# Altium schematic symbol library SparkFun-Capacitors.SCHLIB: 79 symbols
Pins are listed as number, name and electrical type; pins without a type are passive.

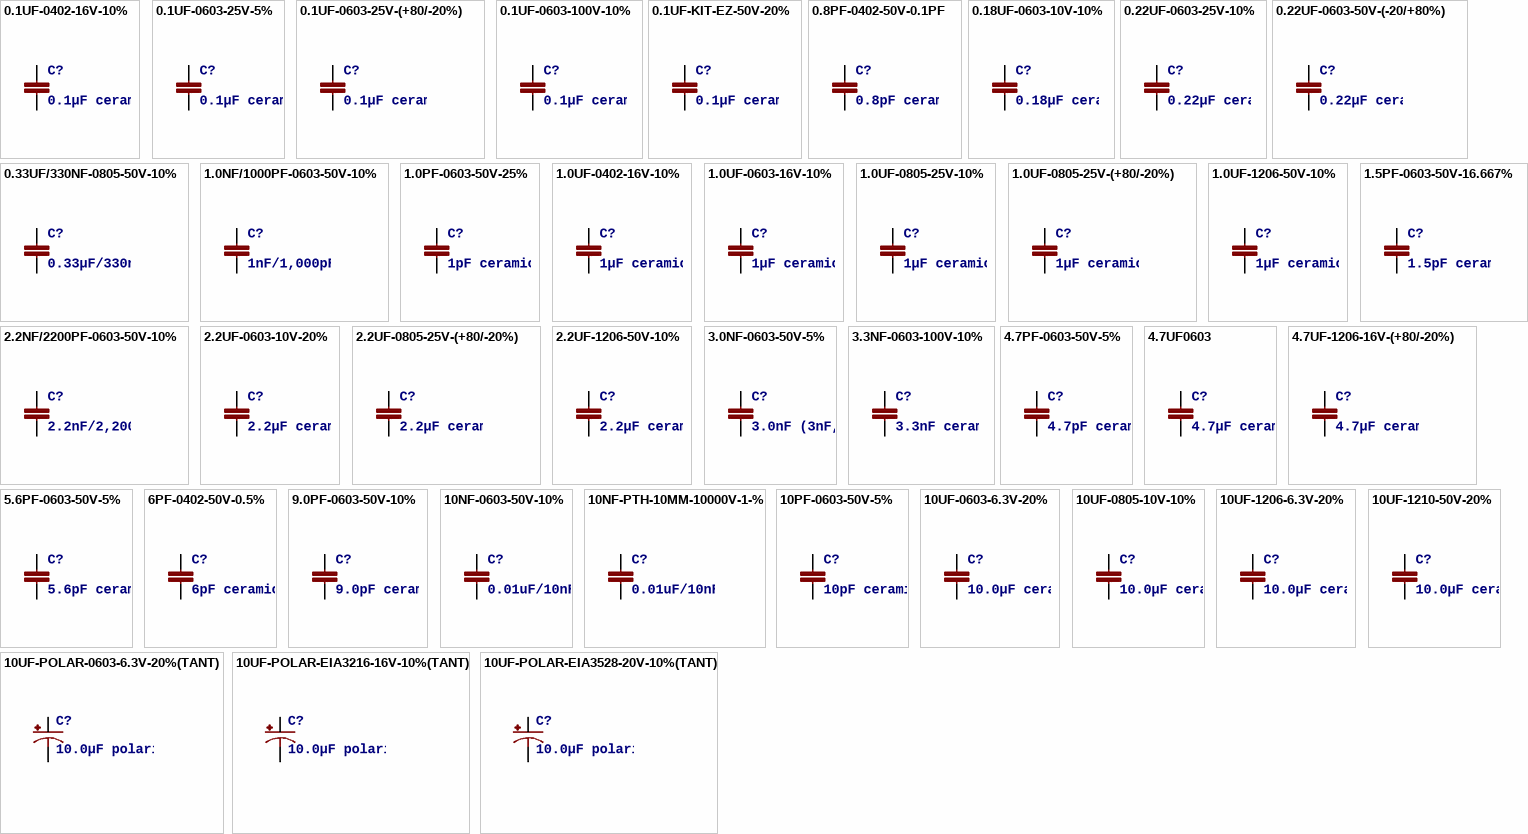
[diagram p0: symbols 0.1UF-0402-16V-10% to 10UF-POLAR-EIA3528-20V-10%(TANT)]

## 0.1UF-0402-16V-10%
designator C?, comment 0.1µF ceramic capacitors    A capacitor is a passive two-terminal electrical component used to store electrical energy temporarily in an electric field.
PROD_ID: CAP-12416
footprint 0402
pins: 1, 2

## 0.1UF-0603-25V-5%
designator C?, comment 0.1µF ceramic capacitors    A capacitor is a passive two-terminal electrical component used to store electrical energy temporarily in an electric field.
PROD_ID: CAP-08604
footprint 0603
pins: 1, 2

## 0.1UF-0603-25V-(+80/-20%)
designator C?, comment 0.1µF ceramic capacitors    A capacitor is a passive two-terminal electrical component used to store electrical energy temporarily in an electric field.
PROD_ID: CAP-00810
footprint 0603
pins: 1, 2

## 0.1UF-0603-100V-10%
designator C?, comment 0.1µF ceramic capacitors    A capacitor is a passive two-terminal electrical component used to store electrical energy temporarily in an electric field.
PROD_ID: CAP-08390
footprint 0603
pins: 1, 2

## 0.1UF-KIT-EZ-50V-20%
designator C?, comment 0.1µF ceramic capacitors    A capacitor is a passive two-terminal electrical component used to store electrical energy temporarily in an electric field.
PROD_ID: CAP-08370
footprint CAP-PTH-SMALL-KIT
pins: 1, 2

## 0.8PF-0402-50V-0.1PF
designator C?, comment 0.8pF ceramic capacitors    A capacitor is a passive two-terminal electrical component used to store electrical energy temporarily in an electric field.
PROD_ID: CAP-13456
footprint 0402
pins: 1, 2

## 0.18UF-0603-10V-10%
designator C?, comment 0.18µF ceramic capacitor    A capacitor is a passive two-terminal electrical component used to store electrical energy temporarily in an electric field.
PROD_ID: CAP-12380
footprint 0603
pins: 1, 2

## 0.22UF-0603-25V-10%
designator C?, comment 0.22µF ceramic capacitors    A capacitor is a passive two-terminal electrical component used to store electrical energy temporarily in an electric field.
PROD_ID: CAP-07822
footprint 0603
pins: 1, 2

## 0.22UF-0603-50V-(-20/+80%)
designator C?, comment 0.22µF ceramic capacitors    A capacitor is a passive two-terminal electrical component used to store electrical energy temporarily in an electric field.
PROD_ID: CAP-09885
footprint 0603
pins: 1, 2

## 0.33UF/330NF-0805-50V-10%
designator C?, comment 0.33µF/330nF ceramic capacitors    A capacitor is a passive two-terminal electrical component used to store electrical energy temporarily in an electric field.
PROD_ID: CAP-08469
footprint 0805
pins: 1, 2

## 1.0NF/1000PF-0603-50V-10%
designator C?, comment 1nF/1,000pF ceramic capacitors    A capacitor is a passive two-terminal electrical component used to store electrical energy temporarily in an electric field.
PROD_ID: CAP-07886
footprint 0603
pins: 1, 2

## 1.0PF-0603-50V-25%
designator C?, comment 1pF ceramic capacitors    A capacitor is a passive two-terminal electrical component used to store electrical energy temporarily in an electric field.
PROD_ID: CAP-07879
footprint 0603
pins: 1, 2

## 1.0UF-0402-16V-10%
designator C?, comment 1µF ceramic capacitors    A capacitor is a passive two-terminal electrical component used to store electrical energy temporarily in an electric field.
PROD_ID: CAP-12417
footprint 0402
pins: 1, 2

## 1.0UF-0603-16V-10%
designator C?, comment 1µF ceramic capacitors    A capacitor is a passive two-terminal electrical component used to store electrical energy temporarily in an electric field.
PROD_ID: CAP-00868
footprint 0603
pins: 1, 2

## 1.0UF-0805-25V-10%
designator C?, comment 1µF ceramic capacitors    A capacitor is a passive two-terminal electrical component used to store electrical energy temporarily in an electric field.
PROD_ID: CAP-08064
footprint 0805
pins: 1, 2

## 1.0UF-0805-25V-(+80/-20%)
designator C?, comment 1µF ceramic capacitors    A capacitor is a passive two-terminal electrical component used to store electrical energy temporarily in an electric field.
PROD_ID: CAP-11625
footprint 0805
pins: 1, 2

## 1.0UF-1206-50V-10%
designator C?, comment 1µF ceramic capacitors    A capacitor is a passive two-terminal electrical component used to store electrical energy temporarily in an electric field.
PROD_ID: CAP-09822
footprint 1206
pins: 1, 2

## 1.5PF-0603-50V-16.667%
designator C?, comment 1.5pF ceramic capacitors    A capacitor is a passive two-terminal electrical component used to store electrical energy temporarily in an electric field.
PROD_ID: CAP-08763
footprint 0603
pins: 1, 2

## 2.2NF/2200PF-0603-50V-10%
designator C?, comment 2.2nF/2,200pF ceramic capacitors    A capacitor is a passive two-terminal electrical component used to store electrical energy temporarily in an electric field.
PROD_ID: CAP-07877
footprint 0603
pins: 1, 2

## 2.2UF-0603-10V-20%
designator C?, comment 2.2µF ceramic capacitors    A capacitor is a passive two-terminal electrical component used to store electrical energy temporarily in an electric field.
PROD_ID: CAP-07888
footprint 0603
pins: 1, 2

## 2.2UF-0805-25V-(+80/-20%)
designator C?, comment 2.2µF ceramic capacitors    A capacitor is a passive two-terminal electrical component used to store electrical energy temporarily in an electric field.
PROD_ID: CAP-11624
footprint 0805
pins: 1, 2

## 2.2UF-1206-50V-10%
designator C?, comment 2.2µF ceramic capacitors    A capacitor is a passive two-terminal electrical component used to store electrical energy temporarily in an electric field.
PROD_ID: CAP-10009
footprint 1206
pins: 1, 2

## 3.0NF-0603-50V-5%
designator C?, comment 3.0nF (3nF, 3000pF) ceramic capacitors    A capacitor is a passive two-terminal electrical component used to store electrical energy temporarily in an electric field.
PROD_ID: CAP-13515
footprint 0603
pins: 1, 2

## 3.3NF-0603-100V-10%
designator C?, comment 3.3nF ceramic capacitors    A capacitor is a passive two-terminal electrical component used to store electrical energy temporarily in an electric field.
PROD_ID: CAP-09633
footprint 0603
pins: 1, 2

## 4.7PF-0603-50V-5%
designator C?, comment 4.7pF ceramic capacitors    A capacitor is a passive two-terminal electrical component used to store electrical energy temporarily in an electric field.
PROD_ID: CAP-07880
footprint 0603
pins: 1, 2

## 4.7UF0603
designator C?, comment 4.7µF ceramic capacitors    A capacitor is a passive two-terminal electrical component used to store electrical energy temporarily in an electric field.
PROD_ID: CAP-08280
footprint 0603
pins: 1, 2

## 4.7UF-1206-16V-(+80/-20%)
designator C?, comment 4.7µF ceramic capacitors    A capacitor is a passive two-terminal electrical component used to store electrical energy temporarily in an electric field.
PROD_ID: CAP-10300
footprint 1206
pins: 1, 2

## 5.6PF-0603-50V-5%
designator C?, comment 5.6pF ceramic capacitors    A capacitor is a passive two-terminal electrical component used to store electrical energy temporarily in an electric field.
PROD_ID: CAP-12456
footprint 0603
pins: 1, 2

## 6PF-0402-50V-0.5%
designator C?, comment 6pF ceramic capacitors    A capacitor is a passive two-terminal electrical component used to store electrical energy temporarily in an electric field.
PROD_ID: CAP-13455
footprint 0402
pins: 1, 2

## 9.0PF-0603-50V-10%
designator C?, comment 9.0pF ceramic capacitors    A capacitor is a passive two-terminal electrical component used to store electrical energy temporarily in an electric field.
PROD_ID: CAP-09341
footprint 0603
pins: 1, 2

## 10NF-0603-50V-10%
designator C?, comment 0.01uF/10nF/10,000pF ceramic capacitors    A capacitor is a passive two-terminal electrical component used to store electrical energy temporarily in an electric field.CAP-09321
PROD_ID: CAP-00867
footprint 0603
pins: 1, 2

## 10NF-PTH-10MM-10000V-1-%
designator C?, comment 0.01uF/10nF/10,000pF ceramic capacitors    A capacitor is a passive two-terminal electrical component used to store electrical energy temporarily in an electric field.CAP-09321
PROD_ID: CAP-09321
footprint CAP-PTH-10MM
pins: 1, 2

## 10PF-0603-50V-5%
designator C?, comment 10pF ceramic capacitors    A capacitor is a passive two-terminal electrical component used to store electrical energy temporarily in an electric field.
PROD_ID: CAP-11812
footprint 0603
pins: 1, 2

## 10UF-0603-6.3V-20%
designator C?, comment 10.0µF ceramic capacitors    A capacitor is a passive two-terminal electrical component used to store electrical energy temporarily in an electric field.
PROD_ID: CAP-11015
footprint 0603
pins: 1, 2

## 10UF-0805-10V-10%
designator C?, comment 10.0µF ceramic capacitors    A capacitor is a passive two-terminal electrical component used to store electrical energy temporarily in an electric field.
PROD_ID: CAP-11330
footprint 0805
pins: 1, 2

## 10UF-1206-6.3V-20%
designator C?, comment 10.0µF ceramic capacitors    A capacitor is a passive two-terminal electrical component used to store electrical energy temporarily in an electric field.
PROD_ID: CAP-10057
footprint 1206
pins: 1, 2

## 10UF-1210-50V-20%
designator C?, comment 10.0µF ceramic capacitors    A capacitor is a passive two-terminal electrical component used to store electrical energy temporarily in an electric field.
PROD_ID: CAP-09824
footprint 1210
pins: 1, 2

## 10UF-POLAR-0603-6.3V-20%(TANT)
designator C?, comment 10.0µF polarized capacitors    A capacitor is a passive two-terminal electrical component used to store electrical energy temporarily in an electric field.
PROD_ID: CAP-13210
footprint 0603-POLAR
pins: +, -

## 10UF-POLAR-EIA3216-16V-10%(TANT)
designator C?, comment 10.0µF polarized capacitors    A capacitor is a passive two-terminal electrical component used to store electrical energy temporarily in an electric field.
PROD_ID: CAP-00811
footprint EIA3216
pins: +, -

## 10UF-POLAR-EIA3528-20V-10%(TANT)
designator C?, comment 10.0µF polarized capacitors    A capacitor is a passive two-terminal electrical component used to store electrical energy temporarily in an electric field.
PROD_ID: CAP-08063
footprint EIA3528
pins: A +, C -

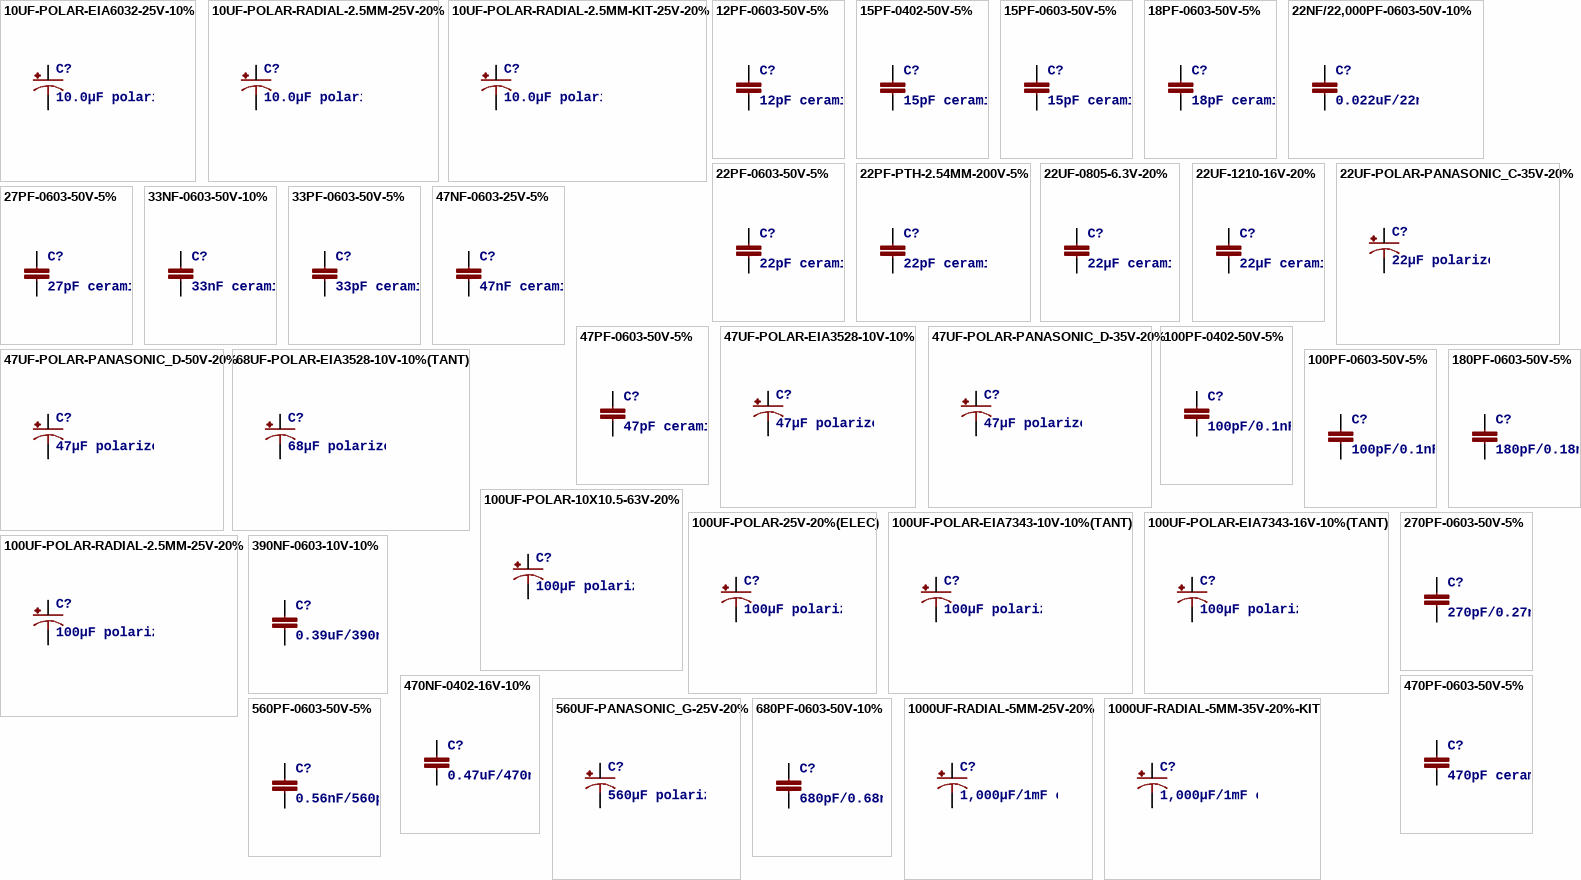
[diagram p1: symbols 10UF-POLAR-EIA6032-25V-10% to 1000UF-RADIAL-5MM-35V-20%-KIT]

## 10UF-POLAR-EIA6032-25V-10%
designator C?, comment 10.0µF polarized capacitors    A capacitor is a passive two-terminal electrical component used to store electrical energy temporarily in an electric field.
PROD_ID: CAP-12984
footprint EIA6032-NOM
pins: A +, C -

## 10UF-POLAR-RADIAL-2.5MM-25V-20%
designator C?, comment 10.0µF polarized capacitors    A capacitor is a passive two-terminal electrical component used to store electrical energy temporarily in an electric field.
PROD_ID: CAP-08440
footprint CPOL-RADIAL-2.5MM-5MM
pins: 1 +, 2 -

## 10UF-POLAR-RADIAL-2.5MM-KIT-25V-20%
designator C?, comment 10.0µF polarized capacitors    A capacitor is a passive two-terminal electrical component used to store electrical energy temporarily in an electric field.
PROD_ID: CAP-08440
footprint CPOL-RADIAL-2.5MM-5MM-KIT
pins: 1 +, 2 -

## 12PF-0603-50V-5%
designator C?, comment 12pF ceramic capacitors    A capacitor is a passive two-terminal electrical component used to store electrical energy temporarily in an electric field.
PROD_ID: CAP-09137
footprint 0603
pins: 1, 2

## 15PF-0402-50V-5%
designator C?, comment 15pF ceramic capacitors    A capacitor is a passive two-terminal electrical component used to store electrical energy temporarily in an electric field.
PROD_ID: CAP-13063
footprint 0402
pins: 1, 2

## 15PF-0603-50V-5%
designator C?, comment 15pF ceramic capacitors    A capacitor is a passive two-terminal electrical component used to store electrical energy temporarily in an electric field.
PROD_ID: CAP-07881
footprint 0603
pins: 1, 2

## 18PF-0603-50V-5%
designator C?, comment 18pF ceramic capacitors    A capacitor is a passive two-terminal electrical component used to store electrical energy temporarily in an electric field.
PROD_ID: CAP-08267
footprint 0603
pins: 1, 2

## 22NF/22,000PF-0603-50V-10%
designator C?, comment 0.022uF/22nF/22,000pF ceramic capacitors    A capacitor is a passive two-terminal electrical component used to store electrical energy temporarily in an electric field.
PROD_ID: CAP-07885
footprint 0603
pins: 1, 2

## 22PF-0603-50V-5%
designator C?, comment 22pF ceramic capacitors    A capacitor is a passive two-terminal electrical component used to store electrical energy temporarily in an electric field.
PROD_ID: CAP-07876
footprint 0603
pins: 1, 2

## 22PF-PTH-2.54MM-200V-5%
designator C?, comment 22pF ceramic capacitors    A capacitor is a passive two-terminal electrical component used to store electrical energy temporarily in an electric field.
PROD_ID: CAP-09128
footprint CAP-PTH-2.54
pins: 1, 2

## 22UF-0805-6.3V-20%
designator C?, comment 22µF ceramic capacitors    A capacitor is a passive two-terminal electrical component used to store electrical energy temporarily in an electric field.
PROD_ID: CAP-08402
footprint 0805
pins: 1, 2

## 22UF-1210-16V-20%
designator C?, comment 22µF ceramic capacitors    A capacitor is a passive two-terminal electrical component used to store electrical energy temporarily in an electric field.
footprint 1210
pins: 1, 2

## 22UF-POLAR-PANASONIC_C-35V-20%
designator C?, comment 22µF polarized capacitors    A capacitor is a passive two-terminal electrical component used to store electrical energy temporarily in an electric field.
PROD_ID: CAP-08618
footprint PANASONIC_C
pins: +, -

## 27PF-0603-50V-5%
designator C?, comment 27pF ceramic capacitors    A capacitor is a passive two-terminal electrical component used to store electrical energy temporarily in an electric field.
PROD_ID: CAP-09989
footprint 0603
pins: 1, 2

## 33NF-0603-50V-10%
designator C?, comment 33nF ceramic capacitors    A capacitor is a passive two-terminal electrical component used to store electrical energy temporarily in an electric field.
PROD_ID: CAP-07887
footprint 0603
pins: 1, 2

## 33PF-0603-50V-5%
designator C?, comment 33pF ceramic capacitors    A capacitor is a passive two-terminal electrical component used to store electrical energy temporarily in an electric field.
PROD_ID: CAP-10142
footprint 0603
pins: 1, 2

## 47NF-0603-25V-5%
designator C?, comment 47nF ceramic capacitors    A capacitor is a passive two-terminal electrical component used to store electrical energy temporarily in an electric field.
PROD_ID: CAP-08605
footprint 0603
pins: 1, 2

## 47PF-0603-50V-5%
designator C?, comment 47pF ceramic capacitors    A capacitor is a passive two-terminal electrical component used to store electrical energy temporarily in an electric field.
PROD_ID: CAP-08913
footprint 0603
pins: 1, 2

## 47UF-POLAR-EIA3528-10V-10%
designator C?, comment 47µF polarized capacitors    A capacitor is a passive two-terminal electrical component used to store electrical energy temporarily in an electric field.
PROD_ID: CAP-08310
footprint EIA3528
pins: A +, C -

## 47UF-POLAR-PANASONIC_D-35V-20%
designator C?, comment 47µF polarized capacitors    A capacitor is a passive two-terminal electrical component used to store electrical energy temporarily in an electric field.
PROD_ID: CAP-08478
footprint PANASONIC_D
pins: +, -

## 47UF-POLAR-PANASONIC_D-50V-20%
designator C?, comment 47µF polarized capacitors    A capacitor is a passive two-terminal electrical component used to store electrical energy temporarily in an electric field.
footprint PANASONIC_D
pins: +, -

## 68UF-POLAR-EIA3528-10V-10%(TANT)
designator C?, comment 68µF polarized capacitors    A capacitor is a passive two-terminal electrical component used to store electrical energy temporarily in an electric field.
PROD_ID: CAP-10790
footprint EIA3528
pins: A +, C -

## 100PF-0402-50V-5%
designator C?, comment 100pF/0.1nF ceramic capacitors    A capacitor is a passive two-terminal electrical component used to store electrical energy temporarily in an electric field.
PROD_ID: CAP-13458
footprint 0402
pins: 1, 2

## 100PF-0603-50V-5%
designator C?, comment 100pF/0.1nF ceramic capacitors    A capacitor is a passive two-terminal electrical component used to store electrical energy temporarily in an electric field.
PROD_ID: CAP-07883
footprint 0603
pins: 1, 2

## 100UF-POLAR-10X10.5-63V-20%
designator C?, comment 100µF polarized capacitors    A capacitor is a passive two-terminal electrical component used to store electrical energy temporarily in an electric field.
PROD_ID: CAP-08362
footprint NIC_10X10.5_CAP
pins: +, -

## 100UF-POLAR-25V-20%(ELEC)
designator C?, comment 100µF polarized capacitors    A capacitor is a passive two-terminal electrical component used to store electrical energy temporarily in an electric field.
PROD_ID: CAP-12547
footprint PANASONIC_D
pins: +, -

## 100UF-POLAR-EIA7343-10V-10%(TANT)
designator C?, comment 100µF polarized capacitors    A capacitor is a passive two-terminal electrical component used to store electrical energy temporarily in an electric field.
PROD_ID: CAP-07890
footprint EIA7343
pins: A +, C -

## 100UF-POLAR-EIA7343-16V-10%(TANT)
designator C?, comment 100µF polarized capacitors    A capacitor is a passive two-terminal electrical component used to store electrical energy temporarily in an electric field.
PROD_ID: CAP-08702
footprint EIA7343
pins: A +, C -

## 100UF-POLAR-RADIAL-2.5MM-25V-20%
designator C?, comment 100µF polarized capacitors    A capacitor is a passive two-terminal electrical component used to store electrical energy temporarily in an electric field.
PROD_ID: CAP-08439
footprint CPOL-RADIAL-2.5MM-6.5MM
pins: 1 +, 2 -

## 180PF-0603-50V-5%
designator C?, comment 180pF/0.18nF ceramic capacitors    A capacitor is a passive two-terminal electrical component used to store electrical energy temporarily in an electric field.
PROD_ID: CAP-11661
footprint 0603
pins: 1, 2

## 270PF-0603-50V-5%
designator C?, comment 270pF/0.27nF ceramic capacitors    A capacitor is a passive two-terminal electrical component used to store electrical energy temporarily in an electric field.
PROD_ID: CAP-13339
footprint 0603
pins: 1, 2

## 390NF-0603-10V-10%
designator C?, comment 0.39uF/390nF ceramic capacitors    A capacitor is a passive two-terminal electrical component used to store electrical energy temporarily in an electric field.
PROD_ID: CAP-10986
footprint 0603
pins: 1, 2

## 470NF-0402-16V-10%
designator C?, comment 0.47uF/470nF ceramic capacitors    A capacitor is a passive two-terminal electrical component used to store electrical energy temporarily in an electric field.
PROD_ID: CAP-09041
footprint 0402
pins: 1, 2

## 470PF-0603-50V-5%
designator C?, comment 470pF ceramic capacitors    A capacitor is a passive two-terminal electrical component used to store electrical energy temporarily in an electric field.
PROD_ID: CAP-07884
footprint 0603
pins: 1, 2

## 560PF-0603-50V-5%
designator C?, comment 0.56nF/560pF ceramic capacitors    A capacitor is a passive two-terminal electrical component used to store electrical energy temporarily in an electric field.
PROD_ID: CAP-08749
footprint 0603
pins: 1, 2

## 560UF-PANASONIC_G-25V-20%
designator C?, comment 560µF polarized capacitors    A capacitor is a passive two-terminal electrical component used to store electrical energy temporarily in an electric field.
PROD_ID: CAP-09983
footprint PANASONIC_G
pins: +, -

## 680PF-0603-50V-10%
designator C?, comment 680pF/0.68nF ceramic capacitors    A capacitor is a passive two-terminal electrical component used to store electrical energy temporarily in an electric field.
PROD_ID: CAP-09232
footprint 0603
pins: 1, 2

## 1000UF-RADIAL-5MM-25V-20%
designator C?, comment 1,000µF/1mF ceramic capacitors    A capacitor is a passive two-terminal electrical component used to store electrical energy temporarily in an electric field.CAP-08070
PROD_ID: CAP-09538
footprint CPOL-RADIAL-5MM-10MM
pins: +, -

## 1000UF-RADIAL-5MM-35V-20%-KIT
designator C?, comment 1,000µF/1mF ceramic capacitors    A capacitor is a passive two-terminal electrical component used to store electrical energy temporarily in an electric field.CAP-08070
PROD_ID: CAP-09538
footprint CPOL-RADIAL-5MM-10MM-KIT
pins: +, -